# EAGLE library part JUMPER_1TO10 (library bao)
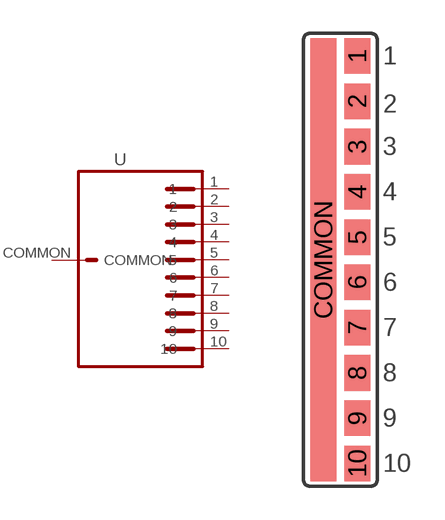
[diagram p23: symbol with the pads of JUMPER_SOLDER_1TO10; footprint JUMPER_SOLDER_1TO10]

Designator prefix -

## JUMPER_1TO10SOLDER (NHPREF: notacomponent; POPULATE: FALSE)  [JUMPER_SOLDER_1TO10]
1  1  pas
2  2  pas
3  3  pas
4  4  pas
5  5  pas
6  6  pas
7  7  pas
8  8  pas
9  9  pas
10  10  pas
COMMON  COMMON  pas

## Footprint JUMPER_SOLDER_1TO10 (pad centres in mm)
smd 1.168 x 1.6: 1 0.762,9.144; 2 0.762,7.112; 3 0.762,5.08; 4 0.762,3.048; 5 0.762,1.016; 6 0.762,-1.016; 7 0.762,-3.048; 8 0.762,-5.08; 9 0.762,-7.112; 10 0.762,-9.144
smd 1.168 x 19.888: COMMON -0.762,0